# Altium schematic symbol library MyLibs.SchLib: 5 symbols
Pins are listed as number, name and electrical type; pins without a type are passive.

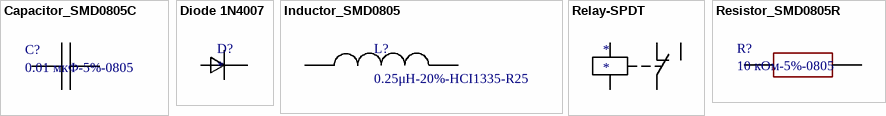
[diagram p0: symbols Capacitor_SMD0805C to Resistor_SMD0805R]

## Capacitor_SMD0805C
designator C?, comment 0.01 мкФ-5%-0805
Manufacturer: *; Href: *; PartNumber: *
footprint CAPACITOR_SMD0805C
pins: 0, 1

## Diode 1N4007
designator D?
Href: *; Manufacturer: *; PartNumber: *
pins: 4, 5

## Inductor_SMD0805
designator L?, comment 0.25μH-20%-HCI1335-R25
Manufacturer: Ferro Core; Value: 0.25 μH; Href: *; PartNumber: *
footprint COIL_SMD0805L
pins: 3, 4

## Relay-SPDT
designator *
Href: *; Manufacturer: *; PartNumber: *
footprint RALEY_IMO3GR
pins: 2, 3, 4, 5, 6

## Resistor_SMD0805R
designator R?, comment 10 кОм-5%-0805
Manufacturer: *; Href: *; PartNumber: *
footprint Resistor_SMD0805R
pins: 0, 1